# Altium footprint library PcbLib1.PcbLib: 8 footprints
Each footprint in its own frame and in the unit in brackets; x right, y up, seen from the top. Pads: shape width x height; smd on the part's side, far side on the other; paste and mask are expansions set on the pad; w line width, h text height; cw(c..) or ccw(c..) is an arc to the next point about the centre after c.
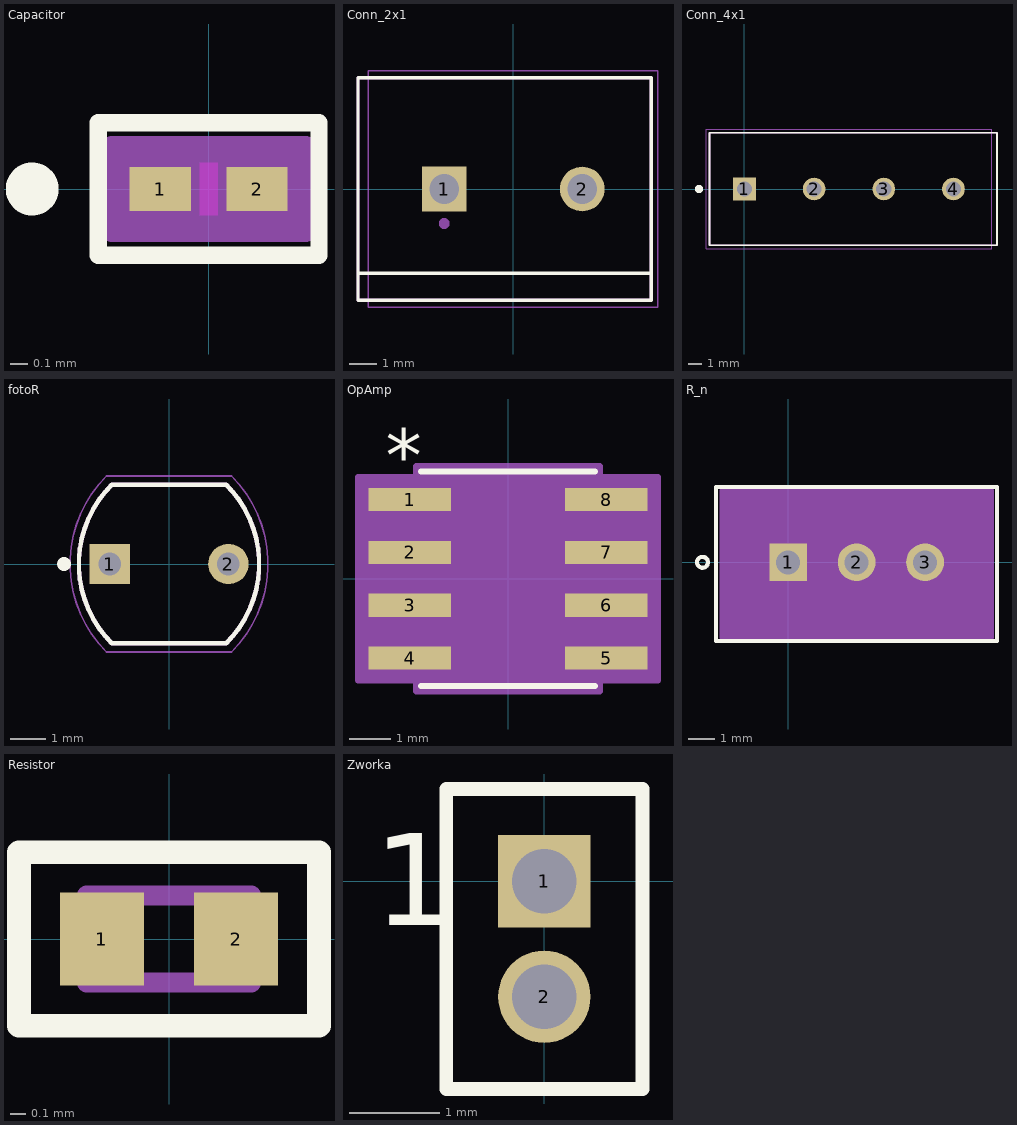
[diagram p0: the footprints below, top view; thin cyan lines are the x and y axes]

## Capacitor [mil]
pads (2):
  rect 13.91x10.03 smd paste+0 mask+0: 1(-10.95,0) 2(10.95,0)
Top Layer keep-out:
  region: -2,-4 -2,4 2,4 2,-4
Top Overlay:
  circle w6: c-40,0 r3
  lines w3.94: -25,-15 25,-15 25,15 -25,15 -25,-15
Keep-Out Layer:
  region: -2,-6 -2,6 2,6 2,-6
Top 3D Body:
  circle w0: c-5.95,0 r3
  lines w1: -12,-6 -12,6 ; -12,-6 -4,-6 -4,6 -12,6 ; -12,-6 12,-6 ; -12,-6 -12,6 ; -12,6 12,6 ; 12,-6 4,-6 4,6 12,6 ; 12,-6 12,6 ; 12,-6 12,6
Mechanical 15:
  region: 21.91,-9.02 -21.91,-9.02 -21.91,9.02 21.91,9.02
  lines w6: -21.91,-9.02 -21.91,9.02 21.91,9.02 21.91,-9.02 -21.91,-9.02
3D body "G-033_MUR.step": height 12.99, standoff 0, extent -12.01,-5.98 12.01,5.98

## Conn_2x1 [mm]
pads (2):
  rect 1.65x1.65 / inner round 1.65 / far side rect 1.65x1.65 hole 1.1: 1(-2.54,0)
  round 1.65 hole 1.1: 2(2.54,0)
Top Overlay:
  lines w0.127: -5.715,-3.1 -5.715,-4.1 5.08,-4.1 5.08,-3.1 ; -5.715,-3.1 -5.715,4.1 5.08,4.1 5.08,-3.1 ; -5.715,-3.1 5.08,-3.1
Top 3D Body:
  circle w0.2: c-2.54,-1.27 r0.1
  lines w0.127: -5.715,-4.1 5.08,-4.1 5.08,4.1 -5.715,4.1 -5.715,-4.1
Mechanical 15:
  lines w0.05: -5.33,-4.35 5.33,-4.35 5.33,4.35 -5.33,4.35 -5.33,-4.35
3D body "step_temp.STEP": height 10, standoff -3.5, extent -5.68,-4.1 5.08,4.1

## Conn_4x1 [mm]
pads (4):
  rect 1.65x1.65 / inner round 1.65 / far side rect 1.65x1.65 hole 1.1: 1(0,0)
  round 1.65 hole 1.1: 2(5.08,0) 3(10.16,0) 4(15.24,0)
Top Overlay:
  circle w0.3: c-3.31,0 r0.15
  lines w0.127: -2.54,-4.1 -2.54,4.1 18.415,4.1 18.415,-4.1 -2.54,-4.1
Top 3D Body:
  circle w0.3: c0,0 r0.15
  lines w0.127: -2.54,-4.1 -2.54,4.1 18.415,4.1 18.415,-4.1 -2.54,-4.1
Mechanical 15:
  lines w0.05: -2.79,-4.35 18.03,-4.35 18.03,4.35 -2.79,4.35 -2.79,-4.35
3D body "step_temp.STEP": height 7.25, standoff -6.25, extent -2.54,-4.1 18.38,4.1

## fotoR [mm]
pads (2):
  rect 1.158x1.158 / inner round 1.158 / far side rect 1.158x1.158 hole 0.65: 1(-1.7,0)
  round 1.158 hole 0.65: 2(1.7,0)
Top Overlay:
  circle w0.2: c-3,0 r0.1
  lines w0.127: -1.64,-2.27 cw(c0.63,0) -1.64,2.27 1.64,2.27 cw(c-0.63,0) 1.64,-2.27 -1.64,-2.27
Top 3D Body:
  circle w0.2: c-1.7,0 r0.1
  lines w0.127: -1.64,-2.27 cw(c0.63,0) -1.64,2.27 1.64,2.27 cw(c-0.63,0) 1.64,-2.27 -1.64,-2.27
Mechanical 15:
  lines w0.05: -1.79,-2.52 cw(c0.73,0) -1.79,2.52 1.79,2.52 cw(c-0.73,0) 1.79,-2.52 -1.79,-2.52
3D body "step_temp.STEP": height 2.38, standoff -26, extent -2.54,-2.145 2.54,2.145

## OpAmp [mil]
pads (8):
  rect 78x22 smd paste+0 mask+0: 1(-93,75) 2(-93,25) 3(-93,-25) 4(-93,-75) 5(93,-75) 6(93,-25) 7(93,25) 8(93,75)
Top Overlay:
  lines w6: -82,-101.5 82,-101.5 ; -82,101.5 82,101.5
  text "*" at -115.5,92 h50
Top 3D Body:
  lines w0: -12,96.5 ccw(c0,96.5) 12,96.5
  lines w1: -118,-85 -118,-65 -77,-65 -77,-85 -118,-85 ; -118,-35 -118,-15 -77,-15 -77,-35 -118,-35 ; -118,15 -118,35 -77,35 -77,15 -118,15 ; -118,65 -118,85 -77,85 -77,65 -118,65 ; -77,-96.5 77,-96.5 77,96.5 -77,96.5 -77,-96.5 ; 77,-85 77,-65 118,-65 118,-85 77,-85 ; 77,-35 77,-15 118,-15 118,-35 77,-35 ; 77,15 77,35 118,35 118,15 77,15 ; 77,65 77,85 118,85 118,65 77,65
  text "*" at -74.5,43.5 h50
Mechanical 15:
  region: -87,-96 -142,-96 -142,96 -87,96 -87,106.5 87,106.5 87,96 142,96 142,-96 87,-96 87,-106.5 -87,-106.5
  lines w6: -142,-96 -142,96 -87,96 -87,106.5 87,106.5 87,96 142,96 142,-96 87,-96 87,-106.5 -87,-106.5 -87,-96 -142,-96
3D body "SOIC8-N_MC_MCH.step": height 69.09, standoff 0, extent -117.99,-96.5 117.99,96.5

## R_n [mil]
pads (3):
  rect 55x55 hole 35 paste-99999 mask+0: 1(0,0)
  round 55 hole 35 paste-99999 mask+0: 2(100,0) 3(200,0)
Top Overlay:
  circle w6: c-125,0 r8
  lines w6: -105,-115 -105,110 305,110 305,-115 -105,-115
Top 3D Body:
  circle w1: c-77.5,-90.12 r8
  lines w1: -87.5,-100.12 -87.5,94.88 287.5,94.88 287.5,-100.12 -87.5,-100.12
Mechanical 15:
  region: 297.5,104.88 -97.5,104.88 -97.5,-110.12 297.5,-110.12
  lines w6: -97.5,-110.12 297.5,-110.12 297.5,104.88 -97.5,104.88 -97.5,-110.12
3D body "PV36W104C01B00.STEP": height 440.26, standoff -318.4, extent -90,-95 285.2,95.16

## Resistor [mm]
pads (2):
  rect 0.54x0.6 smd: 1(-0.432,0) 2(0.432,0)
Top Overlay:
  lines w0.152: -0.965,-0.559 -0.965,0.559 0.965,0.559 0.965,-0.559 -0.965,-0.559
Top Courtyard:
  lines w0.05: -0.95,-0.55 -0.95,0.55 0.95,0.55 0.95,-0.55 -0.95,-0.55
Top 3D Body:
  lines w0.127: -0.53,-0.28 -0.53,0.28 0.53,0.28 0.53,-0.28 -0.53,-0.28
3D body "step_temp.STEP": height 0.37, standoff 0, extent -0.5,-0.25 0.5,0.25

## Zworka [mil]
pads (2):
  rect 40x40 hole 28: 1(0,0)
  round 40 hole 28: 2(0,-50)
Top Overlay:
  lines w6: -42.5,-90 -42.5,40 42.5,40 42.5,-90 -42.5,-90
  text "1" at -74,-19 h40
3D body "FTS-102-01-F-S.stp": height 154.5, standoff -89.5, extent -42.5,-75 42.5,25